# EAGLE library part 2X10_LONG (library pins_1.27mm_pitch)
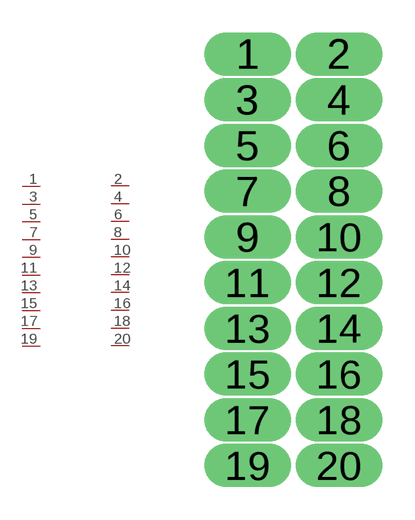
[diagram p21: symbol with the pads of 2X10_LONG; footprint 2X10_LONG]

Designator prefix -

## 2X10_LONG  [2X10_LONG]
1  P$1
2  P$2
3  P$3
4  P$4
5  P$5
6  P$6
7  P$7
8  P$8
9  P$9
10  P$10
11  P$11
12  P$12
13  P$13
14  P$14
15  P$15
16  P$16
17  P$17
18  P$18
19  P$19
20  P$20

## Footprint 2X10_LONG (pad centres in mm)
drill 0.7 pad 1 long: 1 0,5.08; 2 2.54,5.08; 3 0,3.81; 4 2.54,3.81; 5 0,2.54; 6 2.54,2.54; 7 0,1.27; 8 2.54,1.27; 9 0,0; 10 2.54,0; 11 0,-1.27; 12 2.54,-1.27; 13 0,-2.54; 14 2.54,-2.54; 15 0,-3.81; 16 2.54,-3.81; 17 0,-5.08; 18 2.54,-5.08; 19 0,-6.35; 20 2.54,-6.35